# EAGLE library part TS3005DS (library EricB_custom)
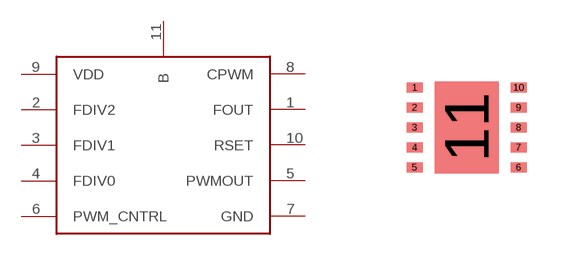
[diagram p12: symbol with the pads of TDFN33-10; footprint TDFN33-10]

Designator prefix -

## TS3005DS  [TDFN33-10]
1  FOUT
2  FDIV2
3  FDIV1
4  FDIV0
5  PWMOUT
6  PWM_CNTRL
7  GND
8  CPWM
9  VDD
10  RSET
11  B

## Footprint TDFN33-10 (pad centres in mm)
smd 0.4 x 0.25: 1 -1.3,1; 2 -1.3,0.5; 3 -1.3,0; 4 -1.3,-0.5; 5 -1.3,-1; 6 1.3,-1; 7 1.3,-0.5; 8 1.3,0; 9 1.3,0.5; 10 1.3,1
smd 1.6 x 2.3: 11 0,0